# Altium schematic symbol library 43025-0200.Schlib: 1 symbol
Pins are listed as number, name and electrical type; pins without a type are passive.

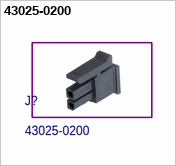
[diagram p0: symbol 43025-0200]

## 43025-0200
designator J?